# EAGLE library part IP4252CZ12-6-TTL (library NXP_By_element14_Batch_1)
Integrated 6-channel passive filter network with ESD protection
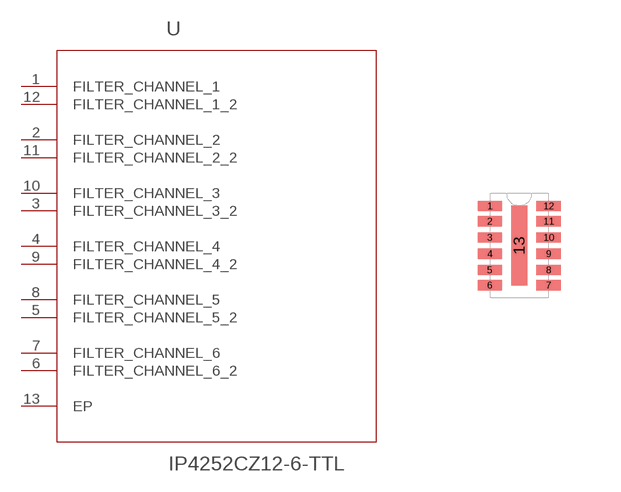
[diagram p296: symbol with the pads of SON40P135X250X55-13N; footprint SON40P135X250X55-13N]

Designator prefix U

## IP4252CZ12-6-TTL (MPN: IP4252CZ12-6-TTL; OC_FARNELL: 1972687; OC_NEWARK: 58T9587; PACKAGE: HUSON-12; SUPPLIER: NXP)  [SON40P135X250X55-13N]
1  FILTER_CHANNEL_1  in
2  FILTER_CHANNEL_2  in
3  FILTER_CHANNEL_3_2  in
4  FILTER_CHANNEL_4  in
5  FILTER_CHANNEL_5_2  in
6  FILTER_CHANNEL_6_2  in
7  FILTER_CHANNEL_6  in
8  FILTER_CHANNEL_5  in
9  FILTER_CHANNEL_4_2  in
10  FILTER_CHANNEL_3  in
11  FILTER_CHANNEL_2_2  in
12  FILTER_CHANNEL_1_2  in
13  EP  in

## Footprint SON40P135X250X55-13N (pad centres in mm)
smd 0.61 x 0.254: 1 -0.737,0.991; 2 -0.737,0.61; 3 -0.737,0.203; 4 -0.737,-0.203; 5 -0.737,-0.61; 6 -0.737,-0.991; 7 0.737,-0.991; 8 0.737,-0.61; 9 0.737,-0.203; 10 0.737,0.203; 11 0.737,0.61; 12 0.737,0.991
smd 0.406 x 2.007: 13 0,0